# EAGLE library part XC2S-TQ144 (library Xilinx)
Xilinx Spartan II FPGA in TQ144 package. Don't use for new designs
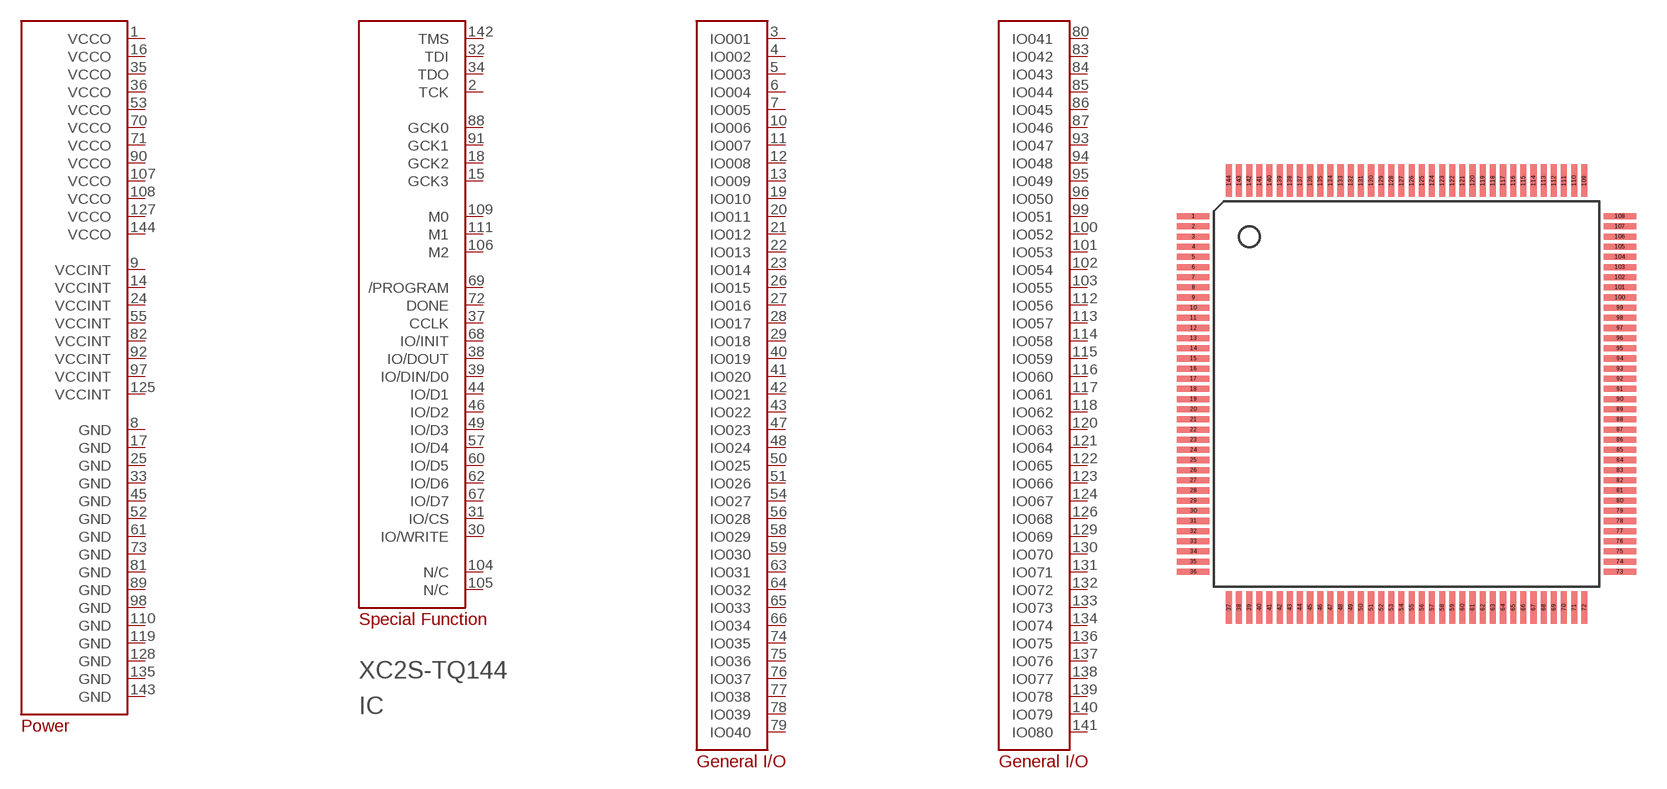
[diagram p9: symbol with the pads of TQ144; footprint TQ144]

Designator prefix IC

## XC2S-TQ144  [TQ144]
1  VCCO  pwr
2  TCK
3  IO001
4  IO002
5  IO003
6  IO004
7  IO005
8  GND  pwr
9  VCCINT  pwr
10  IO006
11  IO007
12  IO008
13  IO009
14  VCCINT  pwr
15  GCK3
16  VCCO  pwr
17  GND  pwr
18  GCK2
19  IO010
20  IO011
21  IO012
22  IO013
23  IO014
24  VCCINT  pwr
25  GND  pwr
26  IO015
27  IO016
28  IO017
29  IO018
30  IO/WRITE
31  IO/CS
32  TDI
33  GND  pwr
34  TDO
35  VCCO  pwr
36  VCCO  pwr
37  CCLK
38  IO/DOUT
39  IO/DIN/D0
40  IO019
41  IO020
42  IO021
43  IO022
44  IO/D1
45  GND  pwr
46  IO/D2
47  IO023
48  IO024
49  IO/D3
50  IO025
51  IO026
52  GND  pwr
53  VCCO  pwr
54  IO027
55  VCCINT  pwr
56  IO028
57  IO/D4
58  IO029
59  IO030
60  IO/D5
61  GND  pwr
62  IO/D6
63  IO031
64  IO032
65  IO033
66  IO034
67  IO/D7
68  IO/INIT
69  /PROGRAM
70  VCCO  pwr
71  VCCO  pwr
72  DONE
73  GND  pwr
74  IO035
75  IO036
76  IO037
77  IO038
78  IO039
79  IO040
80  IO041
81  GND  pwr
82  VCCINT  pwr
83  IO042
84  IO043
85  IO044
86  IO045
87  IO046
88  GCK0
89  GND  pwr
90  VCCO  pwr
91  GCK1
92  VCCINT  pwr
93  IO047
94  IO048
95  IO049
96  IO050
97  VCCINT  pwr
98  GND  pwr
99  IO051
100  IO052
101  IO053
102  IO054
103  IO055
104  N/C
105  N/C
106  M2
107  VCCO  pwr
108  VCCO  pwr
109  M0
110  GND  pwr
111  M1
112  IO056
113  IO057
114  IO058
115  IO059
116  IO060
117  IO061
118  IO062
119  GND  pwr
120  IO063
121  IO064
122  IO065
123  IO066
124  IO067
125  VCCINT  pwr
126  IO068
127  VCCO  pwr
128  GND  pwr
129  IO069
130  IO070
131  IO071
132  IO072
133  IO073
134  IO074
135  GND  pwr
136  IO075
137  IO076
138  IO077
139  IO078
140  IO079
141  IO080
142  TMS
143  GND  pwr
144  VCCO  pwr

## Footprint TQ144 (pad centres in mm)
smd 1.6 x 0.3: 1 -10.5,8.75; 2 -10.5,8.25; 3 -10.5,7.75; 4 -10.5,7.25; 5 -10.5,6.75; 6 -10.5,6.25; 7 -10.5,5.75; 8 -10.5,5.25; 9 -10.5,4.75; 10 -10.5,4.25; 11 -10.5,3.75; 12 -10.5,3.25; 13 -10.5,2.75; 14 -10.5,2.25; 15 -10.5,1.75; 16 -10.5,1.25; 17 -10.5,0.75; 18 -10.5,0.25; 19 -10.5,-0.25; 20 -10.5,-0.75; 21 -10.5,-1.25; 22 -10.5,-1.75; 23 -10.5,-2.25; 24 -10.5,-2.75; 25 -10.5,-3.25; 26 -10.5,-3.75; 27 -10.5,-4.25; 28 -10.5,-4.75; 29 -10.5,-5.25; 30 -10.5,-5.75; 31 -10.5,-6.25; 32 -10.5,-6.75; 33 -10.5,-7.25; 34 -10.5,-7.75; 35 -10.5,-8.25; 36 -10.5,-8.75; 73 10.5,-8.75; 74 10.5,-8.25; 75 10.5,-7.75; 76 10.5,-7.25; 77 10.5,-6.75; 78 10.5,-6.25; 79 10.5,-5.75; 80 10.5,-5.25; 81 10.5,-4.75; 82 10.5,-4.25; 83 10.5,-3.75; 84 10.5,-3.25; 85 10.5,-2.75; 86 10.5,-2.25; 87 10.5,-1.75; 88 10.5,-1.25; 89 10.5,-0.75; 90 10.5,-0.25; 91 10.5,0.25; 92 10.5,0.75; 93 10.5,1.25; 94 10.5,1.75; 95 10.5,2.25; 96 10.5,2.75; 97 10.5,3.25; 98 10.5,3.75; 99 10.5,4.25; 100 10.5,4.75; 101 10.5,5.25; 102 10.5,5.75; 103 10.5,6.25; 104 10.5,6.75; 105 10.5,7.25; 106 10.5,7.75; 107 10.5,8.25; 108 10.5,8.75
smd 0.3 x 1.6: 37 -8.75,-10.5; 38 -8.25,-10.5; 39 -7.75,-10.5; 40 -7.25,-10.5; 41 -6.75,-10.5; 42 -6.25,-10.5; 43 -5.75,-10.5; 44 -5.25,-10.5; 45 -4.75,-10.5; 46 -4.25,-10.5; 47 -3.75,-10.5; 48 -3.25,-10.5; 49 -2.75,-10.5; 50 -2.25,-10.5; 51 -1.75,-10.5; 52 -1.25,-10.5; 53 -0.75,-10.5; 54 -0.25,-10.5; 55 0.25,-10.5; 56 0.75,-10.5; 57 1.25,-10.5; 58 1.75,-10.5; 59 2.25,-10.5; 60 2.75,-10.5; 61 3.25,-10.5; 62 3.75,-10.5; 63 4.25,-10.5; 64 4.75,-10.5; 65 5.25,-10.5; 66 5.75,-10.5; 67 6.25,-10.5; 68 6.75,-10.5; 69 7.25,-10.5; 70 7.75,-10.5; 71 8.25,-10.5; 72 8.75,-10.5; 109 8.75,10.5; 110 8.25,10.5; 111 7.75,10.5; 112 7.25,10.5; 113 6.75,10.5; 114 6.25,10.5; 115 5.75,10.5; 116 5.25,10.5; 117 4.75,10.5; 118 4.25,10.5; 119 3.75,10.5; 120 3.25,10.5; 121 2.75,10.5; 122 2.25,10.5; 123 1.75,10.5; 124 1.25,10.5; 125 0.75,10.5; 126 0.25,10.5; 127 -0.25,10.5; 128 -0.75,10.5; 129 -1.25,10.5; 130 -1.75,10.5; 131 -2.25,10.5; 132 -2.75,10.5; 133 -3.25,10.5; 134 -3.75,10.5; 135 -4.25,10.5; 136 -4.75,10.5; 137 -5.25,10.5; 138 -5.75,10.5; 139 -6.25,10.5; 140 -6.75,10.5; 141 -7.25,10.5; 142 -7.75,10.5; 143 -8.25,10.5; 144 -8.75,10.5